# Altium footprint library PMEG6020AELRX.PcbLib: 2 footprints
Each footprint in its own frame and in the unit in brackets; x right, y up, seen from the top. Pads: shape width x height; smd on the part's side, far side on the other; paste and mask are expansions set on the pad; w line width, h text height; cw(c..) or ccw(c..) is an arc to the next point about the centre after c.
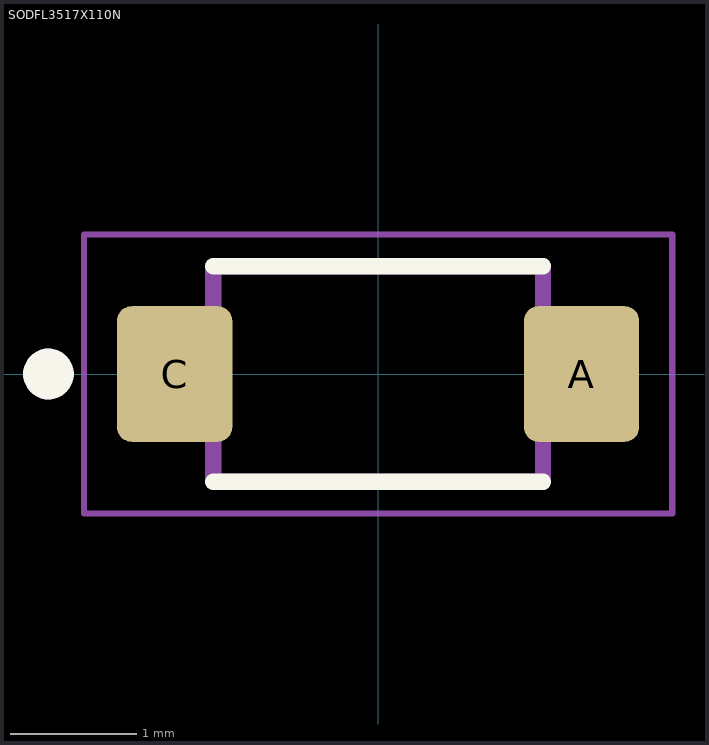
[diagram p0: the footprints below, top view; thin cyan lines are the x and y axes]

## PCBComponent_1 [mm]

## SODFL3517X110N [mm]
pads (2):
  rrect25% 0.91x1.07 smd: A(1.605,0) C(-1.605,0)
Top Overlay:
  circle w0.2: c-2.6,0 r0.1
  lines w0.127: -1.3,-0.85 1.3,-0.85 ; -1.3,0.85 1.3,0.85
Mechanical 13:
  circle w0.2: c-2.6,0 r0.1
  lines w0.127: -1.3,-0.85 -1.3,0.85 1.3,0.85 1.3,-0.85 -1.3,-0.85
Mechanical 15:
  lines w0.05: -2.32,-1.1 2.32,-1.1 2.32,1.1 -2.32,1.1 -2.32,-1.1
3D body "step_temp.STEP": height 1.1, standoff 0, extent -1.75,-0.85 1.75,0.85